# Altium schematic symbol library MCP23S17.Schlib: 1 symbol
Pins are listed as number, name and electrical type; pins without a type are passive.

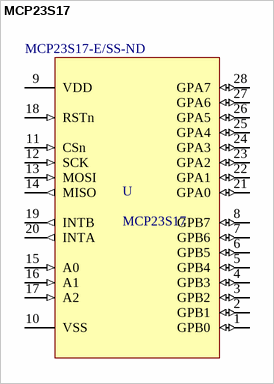
[diagram p0: symbol MCP23S17]

## MCP23S17
designator U  Supplier Part Number 1: MCP23S17-E/SS-ND
16 bit I/O expander with SPI interface.; Supplier 1: Digi-Key
footprint SOP65P780X200-28N (SOP + Pitch P + Lead Span Nominal X Height - #Pins)
pins: 1 GPB0 (io), 2 GPB1 (io), 3 GPB2 (io), 4 GPB3 (io), 5 GPB4 (io), 6 GPB5 (io), 7 GPB6 (io), 8 GPB7 (io), 9 VDD (power), 10 VSS (power), 11 CSn (in), 12 SCK (in), 13 MOSI (in), 14 MISO (out), 15 A0 (in), 16 A1 (in), 17 A2 (in), 18 RSTn (in), 19 INTB (out), 20 INTA (out), 21 GPA0 (io), 22 GPA1 (io), 23 GPA2 (io), 24 GPA3 (io), 25 GPA4 (io), 26 GPA5 (io), 27 GPA6 (io), 28 GPA7 (io)